# Altium footprint library USB4120-03-C_REVA.PCBLIB: 1 footprints
Each footprint in its own frame and in the unit in brackets; x right, y up, seen from the top. Pads: shape width x height; smd on the part's side, far side on the other; paste and mask are expansions set on the pad; w line width, h text height; cw(c..) or ccw(c..) is an arc to the next point about the centre after c.
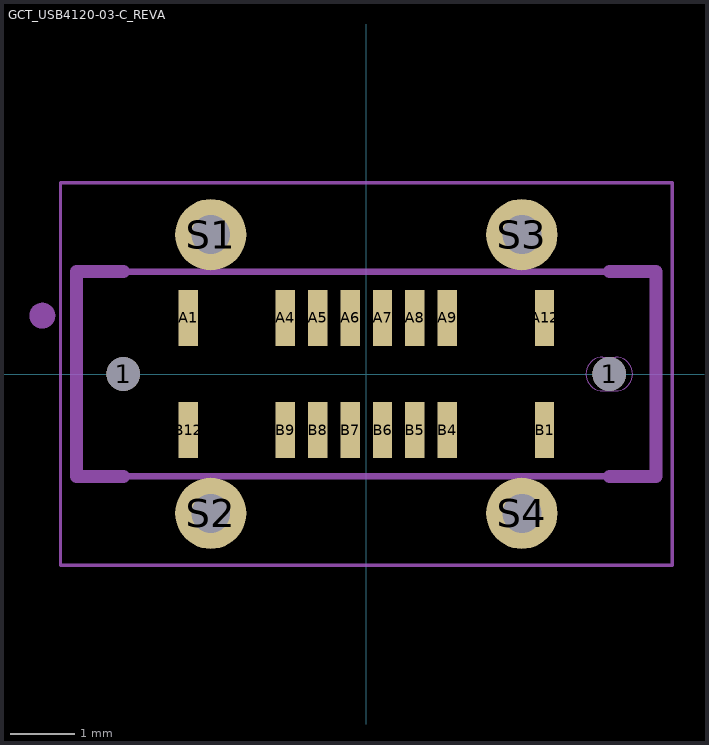
[diagram p0: the footprint, top view; thin cyan lines are the x and y axes]

## GCT_USB4120-03-C_REVA [mm]
pads (22):
  round 0.52 hole 0.52 unplated: 1(-3.75,0) 1(3.75,0)
  rect 0.3x0.87 smd: A1(-2.75,0.865) A4(-1.25,0.865) A5(-0.75,0.865) A6(-0.25,0.865) A7(0.25,0.865) A8(0.75,0.865) A9(1.25,0.865) A12(2.75,0.865) B1(2.75,-0.865) B4(1.25,-0.865) B5(0.75,-0.865) B6(0.25,-0.865) B7(-0.25,-0.865) B8(-0.75,-0.865) B9(-1.25,-0.865) B12(-2.75,-0.865)
  round 1.1 / inner round 1.524 / far side round 1.1 hole 0.6: S1(-2.4,2.15) S2(-2.4,-2.15) S3(2.4,2.15) S4(2.4,-2.15)
Assembly Top:
  circle w0.2: c-5,0.9 r0.1
  lines w0.1: -4.47,-1.58 -4.47,1.58 4.47,1.58 4.47,-1.58 -4.47,-1.58
Mechanical 22:
  circle w0.2: c-5,0.9 r0.1
  lines w0.2: -3.75,-1.58 -4.47,-1.58 -4.47,1.58 -3.75,1.58 ; 3.75,-1.58 4.47,-1.58 4.47,1.58 3.75,1.58
Mechanical 30:
  lines w0.05: -4.72,-2.95 -4.72,2.95 4.72,2.95 4.72,-2.95 -4.72,-2.95
Mechanical 33:
  lines w0: -2.825,-2.15 cw(c-2.525,-2.15) -2.525,-1.85 -2.275,-1.85 cw(c-2.275,-2.15) -1.975,-2.15 cw(c-2.275,-2.15) -2.275,-2.45 -2.525,-2.45 cw(c-2.525,-2.15) -2.825,-2.15 ; -2.825,2.15 cw(c-2.525,2.15) -2.525,2.45 -2.275,2.45 cw(c-2.275,2.15) -1.975,2.15 cw(c-2.275,2.15) -2.275,1.85 -2.525,1.85 cw(c-2.525,2.15) -2.825,2.15 ; 1.975,-2.15 cw(c2.275,-2.15) 2.275,-1.85 2.525,-1.85 cw(c2.525,-2.15) 2.825,-2.15 cw(c2.525,-2.15) 2.525,-2.45 2.275,-2.45 cw(c2.275,-2.15) 1.975,-2.15 ; 1.975,2.15 cw(c2.275,2.15) 2.275,2.45 2.525,2.45 cw(c2.525,2.15) 2.825,2.15 cw(c2.525,2.15) 2.525,1.85 2.275,1.85 cw(c2.275,2.15) 1.975,2.15 ; 3.39,0 cw(c3.65,0) 3.65,0.26 3.85,0.26 cw(c3.85,0) 4.11,0 cw(c3.85,0) 3.85,-0.26 3.65,-0.26 cw(c3.65,0) 3.39,0
3D body: height 6.5, standoff -0.95, extent -4.47,-2.3 4.47,2.3